# Altium schematic symbol library LM2937IMP-12.SchLib: 1 symbol
Pins are listed as number, name and electrical type; pins without a type are passive.

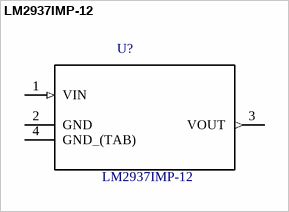
[diagram p0: symbol LM2937IMP-12]

## LM2937IMP-12
designator U?
Sot-223; MF: Fairchild Semiconductor; Availability: Unavailable; MP: LM2937IMP-12; Price: None; Package: SOT-223 Fairchild Semiconductor; Value: *
footprint SOT230P700X180-4N
pins: 1 VIN (in), 2 GND, 3 VOUT (out), 4 GND_(TAB)